# Altium schematic symbol library UserIC.SchLib: 1 symbol
Pins are listed as number, name and electrical type; pins without a type are passive.

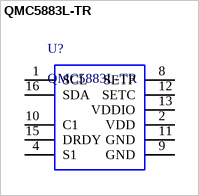
[diagram p0: symbol QMC5883L-TR]

## QMC5883L-TR
designator U?
IC; Manufacturer: 矽睿科技; ComponentLink1Description: NULL; Supplier: 矽睿科技; SuppliersPartNumber: QMC5883L-TR; Package: LGA-16; ManufacturerPartNumber: QMC5883L-TR
footprint LGA-16
pins: 1 SCL, 2 VDD, 3 NC hidden, 4 S1, 5 NC hidden, 6 NC hidden, 7 NC hidden, 8 SETP, 9 GND, 10 C1, 11 GND, 12 SETC, 13 VDDIO, 14 NC hidden, 15 DRDY, 16 SDA